# Altium schematic symbol library BQ76200PWR.SchLib: 1 symbol
Pins are listed as number, name and electrical type; pins without a type are passive.

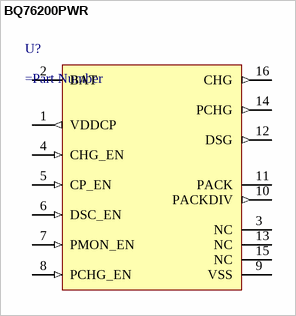
[diagram p0: symbol BQ76200PWR]

## BQ76200PWR
designator U?
=Description; ComponentLink1Description: Datasheet; ComponentLink1URL: https://www.mouser.ca/datasheet/2/445/61304011121-1718151.pdf
pins: 1 VDDCP (out), 2 BAT (power), 3 NC, 4 CHG_EN (in), 5 CP_EN (in), 6 DSC_EN (in), 7 PMON_EN (in), 8 PCHG_EN (in), 9 VSS (power), 10 PACKDIV (out), 11 PACK (power), 12 DSG (out), 13 NC, 14 PCHG (out), 15 NC, 16 CHG (out)